# EAGLE library part J30J-25 (library CM_J30J)
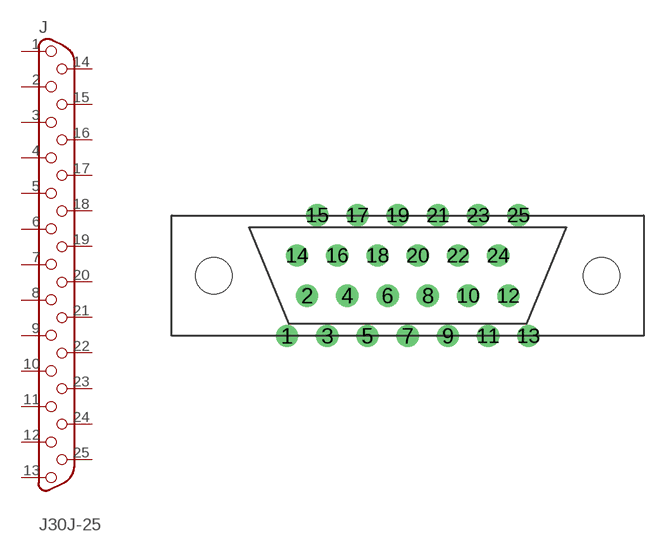
[diagram p3: symbol with the pads of ZKN-25; footprint ZKN-25]

Designator prefix J

## J30J-25  [ZKN-25]
1  1
2  2
3  3
4  4
5  5
6  6
7  7
8  8
9  9
10  10
11  11
12  12
13  13
14  14
15  15
16  16
17  17
18  18
19  19
20  20
21  21
22  22
23  23
24  24
25  25

## Footprint ZKN-25 (pad centres in mm)
drill 0.9: 1 -7.62,-3.81; 2 -6.35,-1.27; 3 -5.08,-3.81; 4 -3.81,-1.27; 5 -2.54,-3.81; 6 -1.27,-1.27; 7 0,-3.81; 8 1.27,-1.27; 9 2.54,-3.81; 10 3.81,-1.27; 11 5.08,-3.81; 12 6.35,-1.27; 13 7.62,-3.81; 14 -6.985,1.27; 15 -5.715,3.81; 16 -4.445,1.27; 17 -3.175,3.81; 18 -1.905,1.27; 19 -0.635,3.81; 20 0.635,1.27; 21 1.905,3.81; 22 3.175,1.27; 23 4.445,3.81; 24 5.715,1.27; 25 6.985,3.81
hole 2.3 at -12.25,0
hole 2.3 at 12.25,0